# EAGLE library part LTC2057 (library SquantorLinearTechnology)
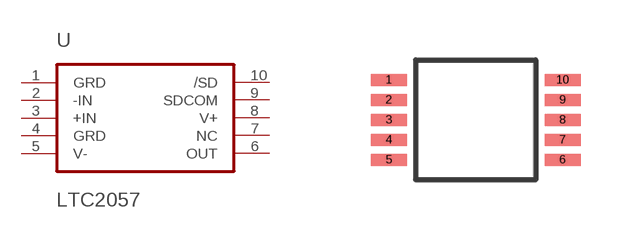
[diagram p2: symbol with the pads of MS-MSOP10; footprint MS-MSOP10]

Designator prefix -

## LTC2057  [MS-MSOP10]
1  GRD
2  -IN
3  +IN
4  GRD
5  V-
6  OUT
7  NC
8  V+
9  SDCOM
10  /SD

## Footprint MS-MSOP10 (pad centres in mm)
smd 0.9 x 0.3: 1 -2.175,1; 2 -2.175,0.5; 3 -2.175,0; 4 -2.175,-0.5; 5 -2.175,-1; 6 2.175,-1; 7 2.175,-0.5; 8 2.175,0; 9 2.175,0.5; 10 2.175,1